# EAGLE library part DG441LE (library DG44xLE)
DG441LE Normally Closed Analog Switch
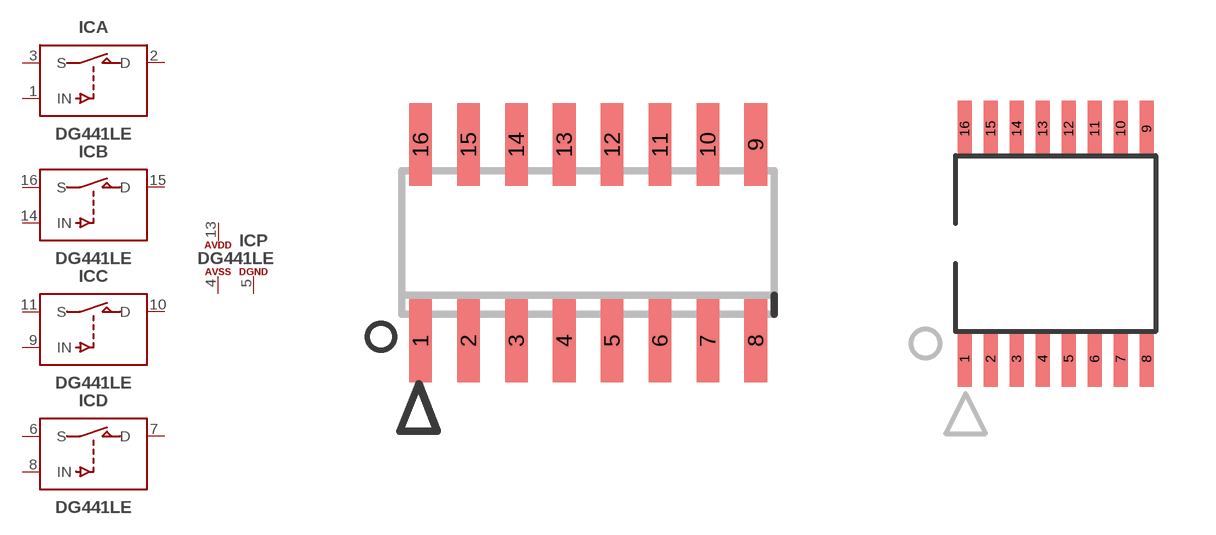
[diagram p0: symbol with the pads of SOIC16N; footprints SOIC16N, TSSOP-16]

Designator prefix IC; gates A=ANSW B=ANSW C=ANSW D=ANSW P=P

## DG441LEDY  [SOIC16N]
1  A:IN
2  A:D
3  A:S
4  P:A-  pwr
5  P:DGND  pwr
6  D:S
7  D:D
8  D:IN
9  C:IN
10  C:D
11  C:S
13  P:A+  pwr
14  B:IN
15  B:D
16  B:S

## DG441LEDQ  [TSSOP-16]
Pads as for SOIC16N

## Footprint SOIC16N (pad centres in mm)
SMALL OUTLINE INTEGRATED CIRCUIT
smd 0.6 x 2.2: 1 -4.445,-2.6; 2 -3.175,-2.6; 3 -1.905,-2.6; 4 -0.635,-2.6; 5 0.635,-2.6; 6 1.905,-2.6; 7 3.175,-2.6; 8 4.445,-2.6; 9 4.445,2.6; 10 3.175,2.6; 11 1.905,2.6; 12 0.635,2.6; 13 -0.635,2.6; 14 -1.905,2.6; 15 -3.175,2.6; 16 -4.445,2.6

## Footprint TSSOP-16 (pad centres in mm)
smd 0.35 x 1.4: 1 -2.275,-2.875; 2 -1.625,-2.875; 3 -0.975,-2.875; 4 -0.325,-2.875; 5 0.325,-2.875; 6 0.975,-2.875; 7 1.625,-2.875; 8 2.275,-2.875; 9 2.275,2.875; 10 1.625,2.875; 11 0.975,2.875; 12 0.325,2.875; 13 -0.325,2.875; 14 -0.975,2.875; 15 -1.625,2.875; 16 -2.275,2.875